# Altium schematic symbol library 942H-2C-24DC.SchLib: 1 symbol
Pins are listed as number, name and electrical type; pins without a type are passive.

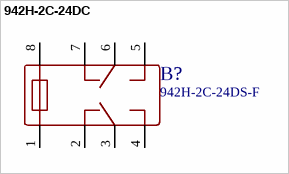
[diagram p0: symbol 942H-2C-24DC]

## 942H-2C-24DC
designator B?, comment 942H-2C-24DS-F
pins: 1, 2, 3, 4, 5, 6, 7, 8